# EAGLE library part MICROCHIP_-_ATMEL_ATTINY88-AU (library Upverter Library)
MC-8B-ATT48-SQ32
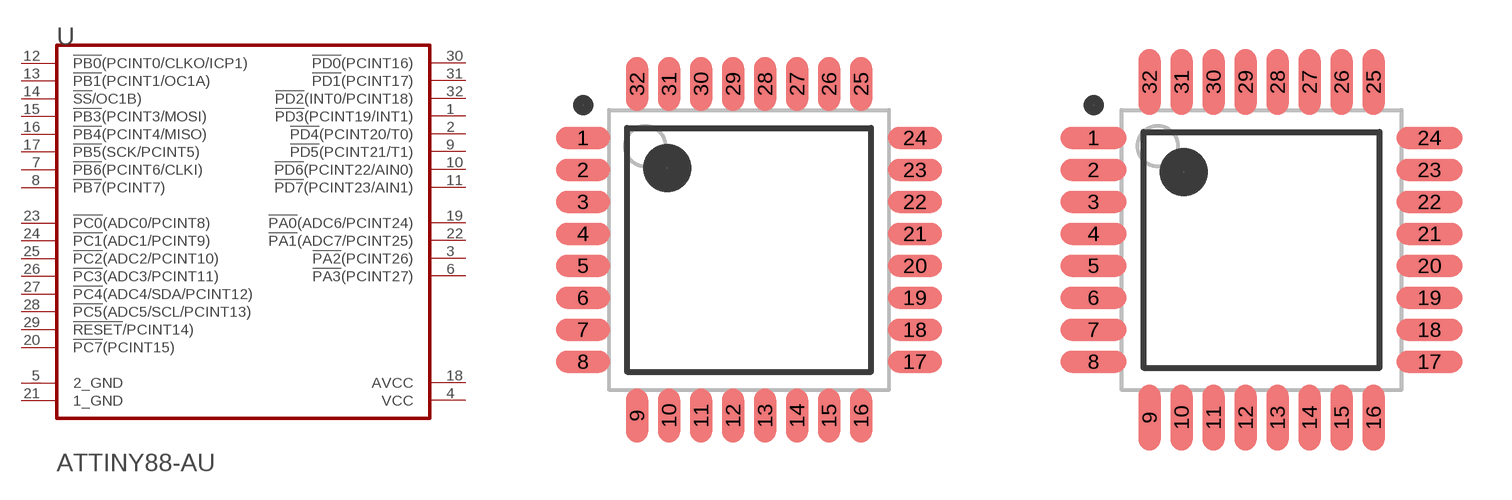
[diagram p0: symbol with the pads of MICROCHIP_-_ATMEL_ATTINY88-AU_0; footprints MICROCHIP_-_ATMEL_ATTINY88-AU_0, MICROCHIP_-_ATMEL_ATTINY88-AU_1]

Designator prefix U

## MICROCHIP_-_ATMEL_ATTINY88-AUMICROCHIP_-_ATMEL_ATTINY88-AU_0_0 (Code__JEDEC: MS-026-ABA; Component_Link_1_Description: Manufacturer URL; Component_Link_1_URL: http://www.atmel.com/; Component_Link_2_Description: ATtiny48/88 Datasheet; Component_Link_2_URL: http://www.atmel.com/dyn/resources/prod_documents/doc8008.pdf; Component_Link_3_Description: ATtiny48/88 Summary; Component_Link_3_URL: http://www.atmel.com/dyn/resources/prod_documents/8008S.pdf; Datasheet_Version: revC, Mar-2009; MF: Microchip / Atmel; MPN: ATTINY88-AU; Package_Description: 32-Lead, 7x7x1.0 mm Body, 0.8mm Lead Pitch, Thin Profile Plastic Quad Flat Package (TQFP); Package_Version: revC, Oct-2010; ciiva_ids: 1155400; footprint_variant_name_0: Level C; footprint_variant_name_1: Level B; footprint_variant_name_2: Level A; import_ts: 1521843945; imported: yes; imported_from: vault; package: 32A; prefix: U; release_date: 1329220623; vault_guid: 2DDE0CE0-C8F3-4319-BD7A-FB53AA627F1B; vault_revision: 4BE95B8B-E1EF-4025-9FFB-95CA84512F43)  [MICROCHIP_-_ATMEL_ATTINY88-AU_0]
1  !PD3!(PCINT19/INT1)
2  !PD4!(PCINT20/T0)
3  !PA2!(PCINT26)
4  VCC  pwr
5  2_GND  pwr
6  !PA3!(PCINT27)
7  !PB6!(PCINT6/CLKI)
8  !PB7!(PCINT7)
9  !PD5!(PCINT21/T1)
10  !PD6!(PCINT22/AIN0)
11  !PD7!(PCINT23/AIN1)
12  !PB0!(PCINT0/CLKO/ICP1)
13  !PB1!(PCINT1/OC1A)
14  !SS!/OC1B)
15  !PB3!(PCINT3/MOSI)
16  !PB4!(PCINT4/MISO)
17  !PB5!(SCK/PCINT5)
18  AVCC  pwr
19  !PA0!(ADC6/PCINT24)
20  !PC7!(PCINT15)
21  1_GND  pwr
22  !PA1!(ADC7/PCINT25)
23  !PC0!(ADC0/PCINT8)
24  !PC1!(ADC1/PCINT9)
25  !PC2!(ADC2/PCINT10)
26  !PC3!(ADC3/PCINT11)
27  !PC4!(ADC4/SDA/PCINT12)
28  !PC5!(ADC5/SCL/PCINT13)
29  !RESET!/PCINT14)
30  !PD0!(PCINT16)
31  !PD1!(PCINT17)
32  !PD2!(INT0/PCINT18)

## MICROCHIP_-_ATMEL_ATTINY88-AUMICROCHIP_-_ATMEL_ATTINY88-AU_0_1 (Code__JEDEC: MS-026-ABA; Component_Link_1_Description: Manufacturer URL; Component_Link_1_URL: http://www.atmel.com/; Component_Link_2_Description: ATtiny48/88 Datasheet; Component_Link_2_URL: http://www.atmel.com/dyn/resources/prod_documents/doc8008.pdf; Component_Link_3_Description: ATtiny48/88 Summary; Component_Link_3_URL: http://www.atmel.com/dyn/resources/prod_documents/8008S.pdf; Datasheet_Version: revC, Mar-2009; MF: Microchip / Atmel; MPN: ATTINY88-AU; Package_Description: 32-Lead, 7x7x1.0 mm Body, 0.8mm Lead Pitch, Thin Profile Plastic Quad Flat Package (TQFP); Package_Version: revC, Oct-2010; ciiva_ids: 1155400; footprint_variant_name_0: Level C; footprint_variant_name_1: Level B; footprint_variant_name_2: Level A; import_ts: 1521843945; imported: yes; imported_from: vault; package: 32A; prefix: U; release_date: 1329220623; vault_guid: 2DDE0CE0-C8F3-4319-BD7A-FB53AA627F1B; vault_revision: 4BE95B8B-E1EF-4025-9FFB-95CA84512F43)  [MICROCHIP_-_ATMEL_ATTINY88-AU_1]
Pads as for MICROCHIP_-_ATMEL_ATTINY88-AU_0

## MICROCHIP_-_ATMEL_ATTINY88-AUMICROCHIP_-_ATMEL_ATTINY88-AU_0_2 (Code__JEDEC: MS-026-ABA; Component_Link_1_Description: Manufacturer URL; Component_Link_1_URL: http://www.atmel.com/; Component_Link_2_Description: ATtiny48/88 Datasheet; Component_Link_2_URL: http://www.atmel.com/dyn/resources/prod_documents/doc8008.pdf; Component_Link_3_Description: ATtiny48/88 Summary; Component_Link_3_URL: http://www.atmel.com/dyn/resources/prod_documents/8008S.pdf; Datasheet_Version: revC, Mar-2009; MF: Microchip / Atmel; MPN: ATTINY88-AU; Package_Description: 32-Lead, 7x7x1.0 mm Body, 0.8mm Lead Pitch, Thin Profile Plastic Quad Flat Package (TQFP); Package_Version: revC, Oct-2010; ciiva_ids: 1155400; footprint_variant_name_0: Level C; footprint_variant_name_1: Level B; footprint_variant_name_2: Level A; import_ts: 1521843945; imported: yes; imported_from: vault; package: 32A; prefix: U; release_date: 1329220623; vault_guid: 2DDE0CE0-C8F3-4319-BD7A-FB53AA627F1B; vault_revision: 4BE95B8B-E1EF-4025-9FFB-95CA84512F43)  [MICROCHIP_-_ATMEL_ATTINY88-AU_2]
Pads as for MICROCHIP_-_ATMEL_ATTINY88-AU_0

## Footprint MICROCHIP_-_ATMEL_ATTINY88-AU_0 (pad centres in mm)
MC-8B-ATT48-SQ32
smd 1.35 x 0.55: 1 -4.15,2.8; 2 -4.15,2; 3 -4.15,1.2; 4 -4.15,0.4; 5 -4.15,-0.4; 6 -4.15,-1.2; 7 -4.15,-2; 8 -4.15,-2.8; 17 4.15,-2.8; 18 4.15,-2; 19 4.15,-1.2; 20 4.15,-0.4; 21 4.15,0.4; 22 4.15,1.2; 23 4.15,2; 24 4.15,2.8
smd 0.55 x 1.35: 9 -2.8,-4.15; 10 -2,-4.15; 11 -1.2,-4.15; 12 -0.4,-4.15; 13 0.4,-4.15; 14 1.2,-4.15; 15 2,-4.15; 16 2.8,-4.15; 25 2.8,4.15; 26 2,4.15; 27 1.2,4.15; 28 0.4,4.15; 29 -0.4,4.15; 30 -1.2,4.15; 31 -2,4.15; 32 -2.8,4.15

## Footprint MICROCHIP_-_ATMEL_ATTINY88-AU_1 (pad centres in mm)
MC-8B-ATT48-SQ32
smd 1.65 x 0.55: 1 -4.2,2.8; 2 -4.2,2; 3 -4.2,1.2; 4 -4.2,0.4; 5 -4.2,-0.4; 6 -4.2,-1.2; 7 -4.2,-2; 8 -4.2,-2.8; 17 4.2,-2.8; 18 4.2,-2; 19 4.2,-1.2; 20 4.2,-0.4; 21 4.2,0.4; 22 4.2,1.2; 23 4.2,2; 24 4.2,2.8
smd 0.55 x 1.65: 9 -2.8,-4.2; 10 -2,-4.2; 11 -1.2,-4.2; 12 -0.4,-4.2; 13 0.4,-4.2; 14 1.2,-4.2; 15 2,-4.2; 16 2.8,-4.2; 25 2.8,4.2; 26 2,4.2; 27 1.2,4.2; 28 0.4,4.2; 29 -0.4,4.2; 30 -1.2,4.2; 31 -2,4.2; 32 -2.8,4.2

## Footprint MICROCHIP_-_ATMEL_ATTINY88-AU_2 (pad centres in mm)
MC-8B-ATT48-SQ32
smd 1.95 x 0.6: 1 -4.25,2.8; 2 -4.25,2; 3 -4.25,1.2; 4 -4.25,0.4; 5 -4.25,-0.4; 6 -4.25,-1.2; 7 -4.25,-2; 8 -4.25,-2.8; 17 4.25,-2.8; 18 4.25,-2; 19 4.25,-1.2; 20 4.25,-0.4; 21 4.25,0.4; 22 4.25,1.2; 23 4.25,2; 24 4.25,2.8
smd 0.6 x 1.95: 9 -2.8,-4.25; 10 -2,-4.25; 11 -1.2,-4.25; 12 -0.4,-4.25; 13 0.4,-4.25; 14 1.2,-4.25; 15 2,-4.25; 16 2.8,-4.25; 25 2.8,4.25; 26 2,4.25; 27 1.2,4.25; 28 0.4,4.25; 29 -0.4,4.25; 30 -1.2,4.25; 31 -2,4.25; 32 -2.8,4.25